# EAGLE library part LTC2909* (library linear-technology-2)
Precision Triple/Dual Input UV, OV and Negative Voltage Monitor
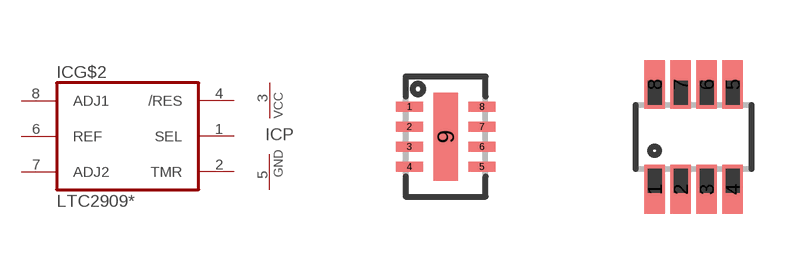
[diagram p37: symbol with the pads of DFN8; footprints DFN8, TSOT23-8]

Designator prefix IC; gates P=PWRN-C-G G$2=LTC2909

## LTC2909CDDB, LTC2909IDDB  [DFN8]
1  G$2:SEL  pas
2  G$2:TMR  pas
3  P:VCC  pwr
4  G$2:/RES  oc
5  P:GND  pwr
6  G$2:REF  pas
7  G$2:ADJ2  in
8  G$2:ADJ1  in

## LTC2909CTS8, LTC2909ITS8  [TSOT23-8]
1  G$2:ADJ1  in
2  G$2:ADJ2  in
3  G$2:REF  pas
4  P:GND  pwr
5  G$2:/RES  oc
6  P:VCC  pwr
7  G$2:TMR  pas
8  G$2:SEL  pas

## Footprint DFN8 (pad centres in mm)
smd 0.675 x 0.25: 1 -0.91,0.75; 2 -0.91,0.25; 3 -0.91,-0.25; 4 -0.91,-0.75; 5 0.91,-0.75; 6 0.91,-0.25; 7 0.91,0.25; 8 0.91,0.75
smd 0.61 x 2.2: 9 0,0

## Footprint TSOT23-8 (pad centres in mm)
smd 0.52 x 1.22: 1 -0.975,-1.31; 2 -0.325,-1.31; 3 0.325,-1.31; 4 0.975,-1.31; 5 0.975,1.31; 6 0.325,1.31; 7 -0.325,1.31; 8 -0.975,1.31